# Altium schematic symbol library SL_Fuses.SchLib: 5 symbols
Pins are listed as number, name and electrical type; pins without a type are passive.

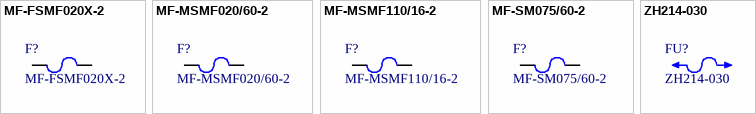
[diagram p0: symbols MF-FSMF020X-2 to ZH214-030]

## MF-FSMF020X-2
designator F?
Fuse, 9V, 0.2A; Manufacturer_Name: Bourns; Datasheet Link: https://componentsearchengine.com/Datasheets/1/MF-FSMF020X-2.pdf; Height: 0.65mm; Manufacturer_Part_Number: MF-FSMF020X-2; Mouser Part Number: 652-MFFSMF020X-2; Mouser Price/Stock: https://www.mouser.co.uk/ProductDetail/Bourns/MF-FSMF020X-2?qs=3QkGRBNOvbqaTWjqPUQNsg%3D%3D; Arrow Part Number: MF-FSMF020X-2; Arrow Price/Stock: https://www.arrow.com/en/products/mf-fsmf020x-2/bourns?region=nac
footprint FUSC1608X65N
pins: 1, 2

## MF-MSMF020/60-2
designator F?
Fuse, 60V, 0.2A; Manufacturer_Name: Bourns; Datasheet Link: https://www.bourns.com/pdfs/mfmsmf.pdf; Height: 0.3mm; Manufacturer_Part_Number: MF-MSMF020/60-2; Mouser Part Number: 652-MF-MSMF020/60-2; Mouser Price/Stock: https://www.mouser.co.uk/ProductDetail/Bourns/MF-MSMF020-60-2?qs=Jd6fKcrbnCcgwZ8w6UAr6w%3D%3D; Arrow Part Number: MF-MSMF020/60-2; Arrow Price/Stock: https://www.arrow.com/en/products/mf-msmf02060-2/bourns?utm_currency=USD&region=nac
footprint FUSC4632X30N
pins: 1, 2

## MF-MSMF110/16-2
designator F?
Fuse, 16V, 1.1A; Manufacturer_Name: Bourns; Datasheet Link: https://componentsearchengine.com/Datasheets/2/MF-MSMF110_16-2.pdf; Height: 0.85mm; Manufacturer_Part_Number: MF-MSMF110/16-2; Mouser Part Number: 652-MF-MSMF110/16-2; Mouser Price/Stock: https://www.mouser.co.uk/ProductDetail/Bourns/MF-MSMF110-16-2?qs=wksszfECgvir54ST3ixUHA%3D%3D; Arrow Part Number: MF-MSMF110/16-2; Arrow Price/Stock: https://www.arrow.com/en/products/mf-msmf11016-2/bourns?utm_currency=USD&region=nac
footprint FUSC4632X85N
pins: 1, 2

## MF-SM075/60-2
designator F?
Fuse, 60V, 0.75A; Manufacturer_Name: Bourns; Datasheet Link: https://static.chipdip.ru/lib/359/DOC011359395.pdf; Height: 3.18mm; Manufacturer_Part_Number: MF-SM075/60-2; Mouser Part Number: 652-MFSM075/60-2; Mouser Price/Stock: https://eu.mouser.com/ProductDetail/Bourns/MF-SM075-60-2; Arrow Part Number: MF-SM075/60-2
footprint MFSM0752
pins: 1, 2

## ZH214-030
designator FU?
Fuse meltable, 3A, 250V; Manufacturer_Name: ZHENHUI ELECTRONICS CO.,LTD; Datasheet Link: https://static.chipdip.ru/lib/043/DOC000043255.pdf; Height: 7.5mm; Manufacturer_Part_Number: ZH214-030
footprint ZH214